# EAGLE library part TMP102 (library SparkFun-20100301)
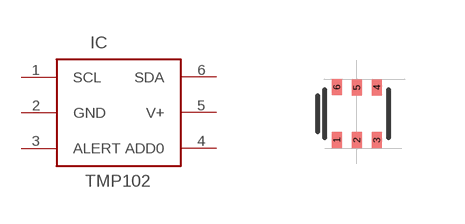
[diagram p232: symbol with the pads of SOT563; footprint SOT563]

Designator prefix IC

## TMP102  [SOT563]
1  SCL
2  GND
3  ALERT
4  ADD0
5  V+
6  SDA

## Footprint SOT563 (pad centres in mm)
smd 0.25 x 0.4: 1 0.3,-0.06; 2 0.8,-0.06; 3 1.3,-0.06; 4 1.3,1.26; 5 0.8,1.26; 6 0.3,1.27